# Altium schematic symbol library ee52_tago_sch.SchLib: 2 symbols
Pins are listed as number, name and electrical type; pins without a type are passive.

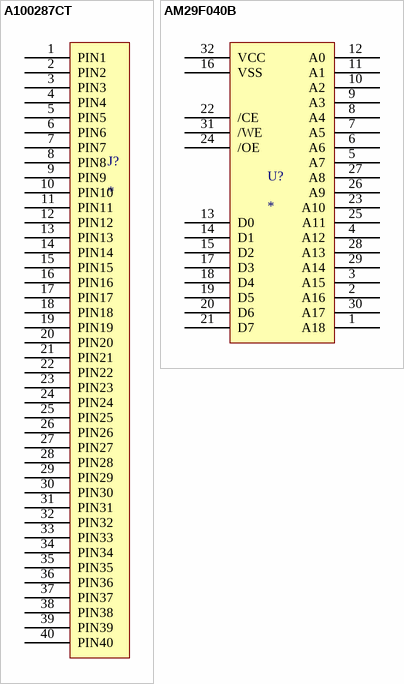
[diagram p0: symbols A100287CT to AM29F040B]

## A100287CT
designator J?
footprint FPC40
pins: 1 PIN1, 2 PIN2, 3 PIN3, 4 PIN4, 5 PIN5, 6 PIN6, 7 PIN7, 8 PIN8, 9 PIN9, 10 PIN10, 11 PIN11, 12 PIN12, 13 PIN13, 14 PIN14, 15 PIN15, 16 PIN16, 17 PIN17, 18 PIN18, 19 PIN19, 20 PIN20, 21 PIN21, 22 PIN22, 23 PIN23, 24 PIN24, 25 PIN25, 26 PIN26, 27 PIN27, 28 PIN28, 29 PIN29, 30 PIN30, 31 PIN31, 32 PIN32, 33 PIN33, 34 PIN34, 35 PIN35, 36 PIN36, 37 PIN37, 38 PIN38, 39 PIN39, 40 PIN40

## AM29F040B
designator U?
512KBit x 8 ROM
footprint PLCCS32
pins: 1 A18, 2 A16, 3 A15, 4 A12, 5 A7, 6 A6, 7 A5, 8 A4, 9 A3, 10 A2, 11 A1, 12 A0, 13 D0, 14 D1, 15 D2, 16 VSS, 17 D3, 18 D4, 19 D5, 20 D6, 21 D7, 22 /CE, 23 A10, 24 /OE, 25 A11, 26 A9, 27 A8, 28 A13, 29 A14, 30 A17, 31 /WE, 32 VCC